# EAGLE library part LRTB-G6TG (library omcOpto)
LRTB G6TG - MULTILED - Enhanced optical Power LED white PLCC-6 package, higher contrast by a black surface (RGB-Displays) and diffused silicone resin additive mixture of color stimuli by independent driving of each chip 625 nm (red), 528 nm (true green), 470 nm (blue) Lambertian Emitter (120°) 43 lm/W (red), 36 lm/W (true green), 11 lm/W (blue) Osram Datasheet <http://www.osram-os.com/Graphics/XPic4/00067263_0.pdf> Reichelt Datasheet <http://cdn-reichelt.de/documents/datenblatt/X100/lrtb_g6tg.pdf>
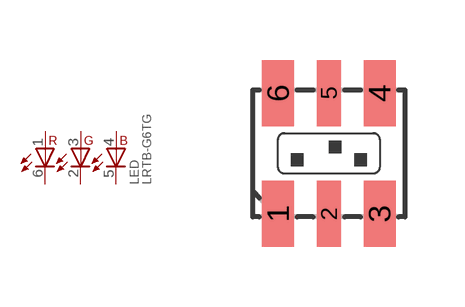
[diagram p1: symbol with the pads of PLCC6; footprint PLCC6]

Designator prefix LED

## LRTB-G6TG (DIST#REICHELT#: LRTB G6TG; VALUE: LRTB G6TG; VENDOR#: OSRAM,Q65111A2479)  [PLCC6]
1  A1  pas
2  C2  pas
3  A2  pas
4  A3  pas
5  C3  pas
6  C1  pas

## Footprint PLCC6 (pad centres in mm)
PLCC6 SMD 3.5mm×3.2mm Wikipedia <https://en.wikipedia.org/wiki/Chip_carrier#Plastic_leaded_chip_carrier>
smd 0.8 x 1.65: 1 -1.27,-1.508; 3 1.27,-1.508; 4 1.27,1.508; 6 -1.27,1.508
smd 0.6 x 1.65: 2 0,-1.508; 5 0,1.508